# Altium footprint library 3-SIP R_A.PcbLib: 1 footprints
Each footprint in its own frame and in the unit in brackets; x right, y up, seen from the top. Pads: shape width x height; smd on the part's side, far side on the other; paste and mask are expansions set on the pad; w line width, h text height; cw(c..) or ccw(c..) is an arc to the next point about the centre after c.
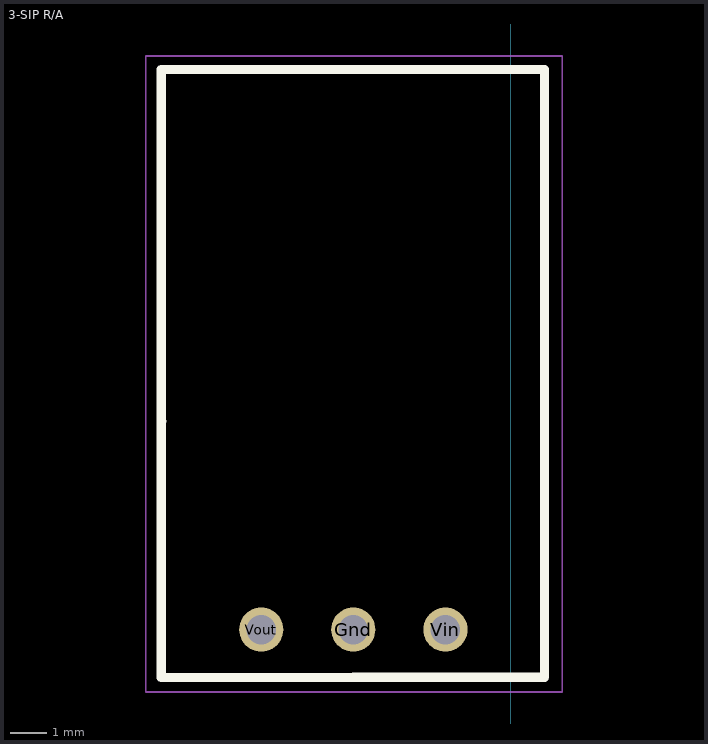
[diagram p0: the footprint, top view; thin cyan lines are the x and y axes]

## 3-SIP R/A [mm]
pads (3):
  round 1.2 hole 0.8: Gnd(-4.273,-16.843) Vin(-1.773,-16.843) Vout(-6.773,-16.843)
Top Overlay:
  lines w0.254: -9.483,-11.193 -9.473,-11.193 ; -4.283,-18.143 -9.483,-18.143 -9.483,-1.643 0.917,-1.643 0.917,-18.133 -4.273,-18.133
Mechanical 15:
  lines w0.051: -9.906,-18.542 -9.906,-1.27 1.397,-1.27 1.397,-18.542 -9.906,-18.542
3D body: height 8.6, standoff 0, extent -9.463,-18.123 0.897,-1.583